# Altium schematic symbol library 102711.SchLib: 2 symbols
Pins are listed as number, name and electrical type; pins without a type are passive.

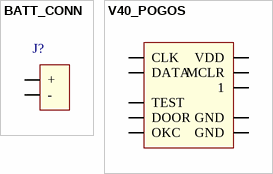
[diagram p0: symbols BATT_CONN to V40_POGOS]

## BATT_CONN
designator J?  (value not drawn)
footprint BAT_CONN
pins: 1 +, 2 -

## V40_POGOS
designator *  (value not drawn)
footprint V40_POGOS
pins: 1, 2 GND, 3 CLK, 4 DATA, 5 MCLR, 6 VDD, 7 TEST, 8 GND, 9 DOOR, 10 OKC